# Altium schematic symbol library CommandBoard.SchLib: 44 symbols
Pins are listed as number, name and electrical type; pins without a type are passive.

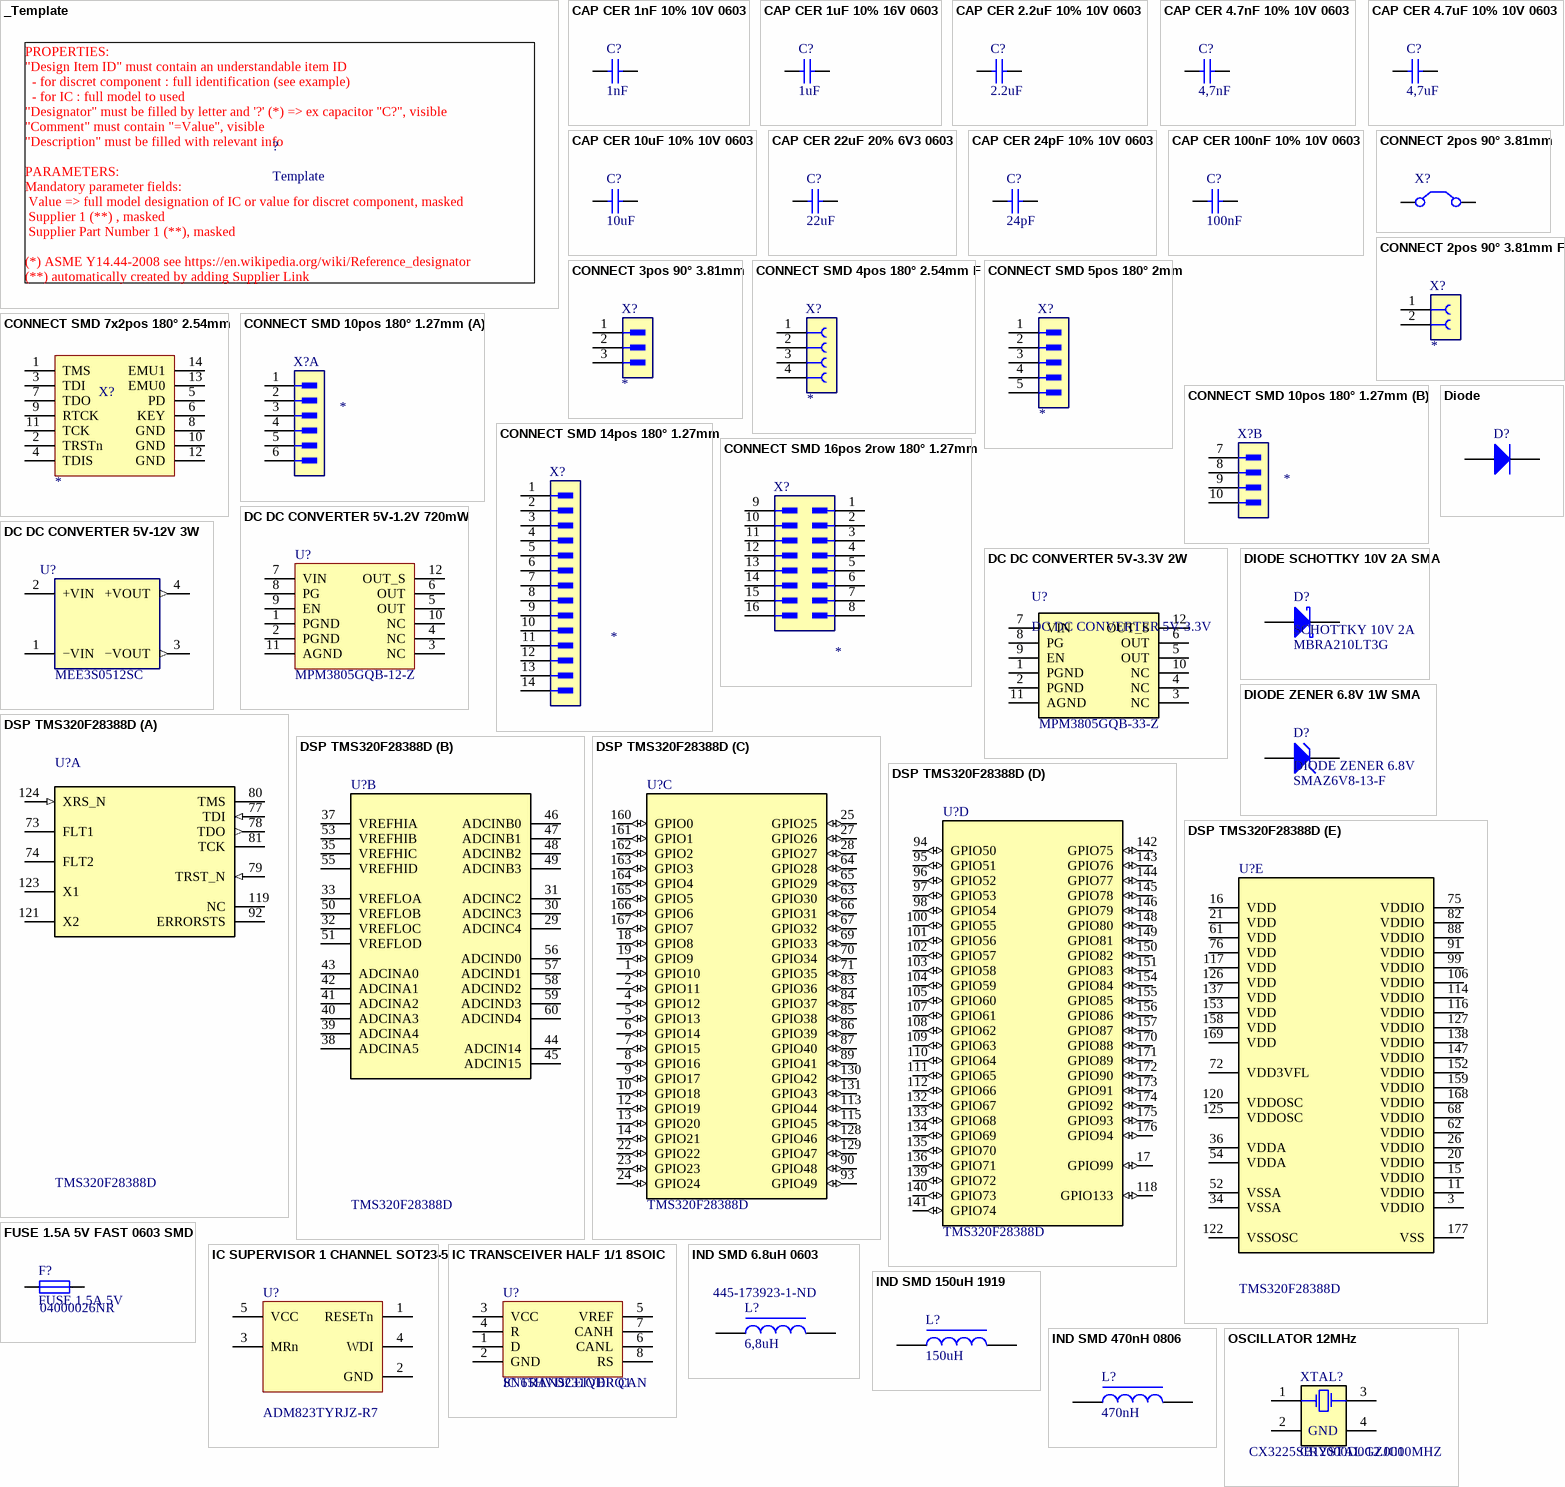
[diagram p0: symbols _Template to OSCILLATOR 12MHz]

## _Template
designator ?, comment Template
Template component; Value: Template
footprint _Template (Template component)
text: PROPERTIES: / "Design Item ID"	must contain an understandable item ID / - for discret component : full identification (see example) / - for IC : full model to used / "Designator"	must be filled by letter and '?' (*) => ex capacitor "C?", visible / "Comment"	must contain "=Value", visible / "Description"	must be filled with relevant info / PARAMETERS: / Mandatory parameter fields: / Value => full model designation of IC or value for discret component, masked / Supplier 1 (**) , masked / Supplier Part Number 1 (**), masked / (*) ASME Y14.44-2008 see https://en.wikipedia.org/wiki/Reference_designator / (**) automatically created by adding Supplier Link /

## CAP CER 1nF 10% 10V 0603
designator C?, comment value 1nF  (hidden comment: CAP CER 1nF 0603)
1nF ±10% 10V Condensateurs céramique X7R 0603 (1608 métrique); Supplier 1: Digi-Key; Supplier Part Number 1: 399-8984-1-ND
footprint CAPC1608X08N (Chip Capacitor, 2-Leads, Body 1.60x0.80mm, IPC Medium Density)
pins: 1, 2

## CAP CER 1uF 10% 16V 0603
designator C?, comment value 1uF  (hidden comment: CAP CER 1uF 0603)
1µF ±10% 16V Condensateurs céramique X7R 0603 (1608 métrique); Supplier 1: Digi-Key; Supplier Part Number 1: 399-7847-1-ND
footprint CAPC1608X08N (Chip Capacitor, 2-Leads, Body 1.60x0.80mm, IPC Medium Density)
pins: 1, 2

## CAP CER 2.2uF 10% 10V 0603
designator C?, comment value 2.2uF  (hidden comment: CAP CER 2.2uF 0603)
2,2µF ±10% 10V Condensateurs céramique X5R 0603 (1608 métrique); Supplier 1: Digi-Key; Supplier Part Number 1: 399-4911-1-ND
footprint CAPC1608X08N (Chip Capacitor, 2-Leads, Body 1.60x0.80mm, IPC Medium Density)
pins: 1, 2

## CAP CER 4.7nF 10% 10V 0603
designator C?, comment value 4,7nF  (hidden comment: CAP CER 4.7nF 0603)
4,7nF ±10% 10V Condensateurs céramique X7R 0603 (1608 métrique); Supplier 1: Digi-Key; Supplier Part Number 1: 399-9092-1-ND
footprint CAPC1608X08N (Chip Capacitor, 2-Leads, Body 1.60x0.80mm, IPC Medium Density)
pins: 1, 2

## CAP CER 4.7uF 10% 10V 0603
designator C?, comment value 4,7uF  (hidden comment: CAP CER 4.7uF 0603)
4,7µF ±20% 10V Condensateurs céramique X5R 0603 (1608 métrique); Supplier 1: Digi-Key; Supplier Part Number 1: 399-9100-1-ND
footprint CAPC1608X08N (Chip Capacitor, 2-Leads, Body 1.60x0.80mm, IPC Medium Density)
pins: 1, 2

## CAP CER 10uF 10% 10V 0603
designator C?, comment value 10uF  (hidden comment: CAP CER 10uF 0603)
10µF ±20% 10V Condensateurs céramique X5R 0603 (1608 métrique); Supplier 1: Digi-Key; Supplier Part Number 1: 399-14945-1-ND
footprint CAPC1608X08N (Chip Capacitor, 2-Leads, Body 1.60x0.80mm, IPC Medium Density)
pins: 1, 2

## CAP CER 22uF 20% 6V3 0603
designator C?, comment value 22uF  (hidden comment: CAP CER 22uF 0603)
22µF ±20% 6,3V Condensateurs céramique X5R 0603 (1608 métrique); Supplier 1: Digi-Key; Supplier Part Number 1: 399-14498-1-ND
footprint CAPC1608X08N (Chip Capacitor, 2-Leads, Body 1.60x0.80mm, IPC Medium Density)
pins: 1, 2

## CAP CER 24pF 10% 10V 0603
designator C?, comment value 24pF  (hidden comment: CAP CER 1nF 0603)
24pF ±10% 10V Condensateurs céramique X7R 0603 (1608 métrique); Supplier 1: Digi-Key; Supplier Part Number 1: 399-8984-1-ND
footprint CAPC1608X08N (Chip Capacitor, 2-Leads, Body 1.60x0.80mm, IPC Medium Density)
pins: 1, 2

## CAP CER 100nF 10% 10V 0603
designator C?, comment value 100nF  (hidden comment: CAP CER 100nF 0603)
0,1µF ±10% 10V Condensateurs céramique X7R 0603 (1608 métrique); Supplier 1: Digi-Key; Supplier Part Number 1: 399-1095-1-ND
footprint CAPC1608X08N (Chip Capacitor, 2-Leads, Body 1.60x0.80mm, IPC Medium Density)
pins: 1, 2

## CONNECT 2pos 90° 3.81mm
designator X?, comment CONNECT 2pos 90°  (value not drawn)
2 Positions, bloc de jonction Embase, broche mâle, gainée (4 côtés) 0,150 po (3,81mm) 90°, engle droit Trou traversant; Value: WR-TBL322; Supplier 1: Newark; Supplier Part Number 1: 99AH1144
footprint 62000211121 (Pin Header, pitch 2.00 mm, THT, Vertical, single row, 2p)
pins: 1 C1, 2 C2

## CONNECT 2pos 90° 3.81mm F
designator X?, comment CONNECT 2pos 90°  (value not drawn)
2 Positions, bloc de jonction Embase, broche mâle, gainée (4 côtés) 0,150 po (3,81mm) 90°, engle droit Trou traversant; Value: WR-TBL322; Supplier 1: Digi-Key; Supplier Part Number 1: 732-2088-ND; Use: *
footprint WR-TBL322 3.81mm 2p
pins: 1, 2

## CONNECT 3pos 90° 3.81mm
designator X?, comment CONNECT 3pos 90°  (value not drawn)
Value: WR-TBL322; Use: *
footprint 62000311121 (Pin Header, pitch 2.00 mm, THT, Vertical, single row, 3p)
pins: 1, 2, 3

## CONNECT SMD 4pos 180° 2.54mm F
designator X?, comment CONNECT SMD 4pos 180°  (value not drawn)
Connecteur, embase Montage en surface 4 positions 0,100 po (2,54mm); Value: *; Use: *
footprint TE_7-215079-4
pins: 1, 2, 3, 4

## CONNECT SMD 5pos 180° 2mm
designator X?, comment CONNECT SMD 5pos 180°  (value not drawn)
Value: *; Use: *
footprint 62000611121 (Pin Header, pitch 2.00 mm, THT, Vertical, single row, 6p)
pins: 1, 2, 3, 4, 5

## CONNECT SMD 7x2pos 180° 2.54mm
designator X?, comment CONNECT SMD 7x2pos 180°  (value not drawn)
Value: *; Use: *
footprint 62101421021 (Pin Header, pitch 1.27 mm, SMD, Vertical, dual row, 14p)
pins: 1 TMS, 2 TRSTn, 3 TDI, 4 TDIS, 5 PD, 6 KEY, 7 TDO, 8 GND, 9 RTCK, 10 GND, 11 TCK, 12 GND, 13 EMU0, 14 EMU1

## CONNECT SMD 10pos 180° 1.27mm
designator X?, comment CONNECT SMD 10pos 180°  (value not drawn)
Value: *; Use: *
footprint 62101021021 (Pin Header, pitch 1.27 mm, SMD, Vertical, dual row, 10p)
part A pins: 1, 2, 3, 4, 5, 6
part B pins: 7, 8, 9, 10

## CONNECT SMD 14pos 180° 1.27mm
designator X?, comment CONNECT SMD 14pos 180°  (value not drawn)
Value: *; Use: *
footprint 62101421021 (Pin Header, pitch 1.27 mm, SMD, Vertical, dual row, 14p)
pins: 1, 2, 3, 4, 5, 6, 7, 8, 9, 10, 11, 12, 13, 14

## CONNECT SMD 16pos 2row 180° 1.27mm
designator X?, comment CONNECT SMD 16pos 180°  (value not drawn)
Value: *; Use: *
footprint 62101621021 (Pin Header, pitch 1.27 mm, SMD, Vertical, dual row, 16p)
pins: 1, 2, 3, 4, 5, 6, 7, 8, 9, 10, 11, 12, 13, 14, 15, 16

## DC DC CONVERTER 5V-1.2V 720mW
designator U?, comment value MPM3805GQB-12-Z  (hidden comment: DC DC CONVERTER 5V-1.2V)
Module PoL non isolé Convertisseurs CC/CC 1 Sortie 1,2V 600mA 2,5V - 6V Entrée /; Supplier 1: Digi-Key; Supplier Part Number 1: 1589-1983-1-ND
footprint QFN2p5x3p0x0p9_MNP
pins: 1 PGND (power), 2 PGND (power), 3 NC (power), 4 NC (power), 5 OUT (power), 6 OUT (power), 7 VIN (power), 8 PG (power), 9 EN (power), 10 NC (power), 11 AGND (power), 12 OUT_S (power)

## DC DC CONVERTER 5V-3.3V 2W
designator U?, comment DC DC CONVERTER 5V-3.3V  value MPM3805GQB-33-Z
Module PoL non isolé Convertisseurs CC/CC 1 Sortie 3,3V 600mA 2,5V - 6V Entrée; Supplier 1: Digi-Key; Supplier Part Number 1: 1589-1986-1-ND
footprint QFN2p5x3p0x0p9_MNP
pins: 1 PGND (power), 2 PGND (power), 3 NC (power), 4 NC (power), 5 OUT (power), 6 OUT (power), 7 VIN (power), 8 PG (power), 9 EN (power), 10 NC (power), 11 AGND (power), 12 OUT_S (power)

## DC DC CONVERTER 5V-12V 3W
designator U?, comment value MEE3S0512SC  (hidden comment: DC DC CONVERTER 5V-12V)
Module isolé Convertisseurs CC/CC 1 Sortie 12V 250mA 4,5V - 5,5V Entrée; Supplier 1: Digi-Key; Supplier Part Number 1: 811-2358-5-ND
footprint DCDC CONVERTER
pins: 1 −VIN, 2 +VIN (power), 3 −VOUT (out), 4 +VOUT (out)

## Diode
designator D?
Default Diode; Published: 8-Jun-2000; LatestRevisionDate: 17-Jul-2002; LatestRevisionNote: Re-released for DXP Platform.; PackageVersion: Sep-1996; PackageReference: SMC; Publisher: Altium Limited; PackageDescription: DO-214-AB/SMC; 2 C-Bend Leads; Body 7.9 x 5.9 mm, inc. leads (LxW); Code_JEDEC: DO-214-AB
pins: 1 A, 2 K

## DIODE SCHOTTKY 10V 2A SMA
designator D?, comment SCHOTTKY 10V 2A  value MBRA210LT3G
Diode Schottky 10V 2A Montage en surface SMA; ComponentLink1Description: Manufacturer Link; ComponentLink1URL: http://www.infineon.com/; ComponentLink2Description: Datasheet; ComponentLink2URL: http://www.infineon.com/upload/Document/cmc_upload/documents/009/363/bat17series.pdf; Supplier 1: Digi-Key; Supplier Part Number 1: MBRA210LT3GOSCT-ND
footprint DIOM4326X22N (Molded Diode, 2-Leads, Body 4.31x2.61mm, IPC Medium Density)
pins: 1 A, 3 K

## DIODE ZENER 6.8V 1W SMA
designator D?, comment DIODE ZENER 6.8V  value SMAZ6V8-13-F
Diodes - Zener 6,8V 1W ±5% Montage en surface SMA; Supplier 1: Digi-Key; Supplier Part Number 1: SMAZ6V8-FDICT-ND
footprint DIOM4326X22N (Molded Diode, 2-Leads, Body 4.31x2.61mm, IPC Medium Density)
pins: 1 A, 2 K

## DSP TMS320F28388D
designator U?, comment value TMS320F28388D  (hidden comment: DSP)
Microcontrôleurs ARM - MCU C2000 32-bit MCU w/ connectivity manager, 2x C28x+CLA CPU, 1.5-MB flash, FPU64, CLB, ENET, EtherCAT 176-HLQFP -40 to 125 °C
footprint TSQFP50P2600X2600X160_HS-177N (TSQFP, 176-Leads, Body 24.00x24.00mm, Pitch 0.50mm, Thermal Pad 8.07x7.33mm, IPC Medium Density)
part A pins: 73 FLT1, 74 FLT2, 77 TDI (in), 78 TDO (out), 79 TRST_N (in), 80 TMS, 81 TCK, 92 ERRORSTS, 119 NC, 121 X2, 123 X1, 124 XRS_N (in)
part B pins: 29 ADCINC4, 30 ADCINC3, 31 ADCINC2, 32 VREFLOC (power), 33 VREFLOA (power), 35 VREFHIC (power), 37 VREFHIA (power), 38 ADCINA5, 39 ADCINA4, 40 ADCINA3, 41 ADCINA2, 42 ADCINA1, 43 ADCINA0, 44 ADCIN14, 45 ADCIN15, 46 ADCINB0, 47 ADCINB1, 48 ADCINB2, 49 ADCINB3, 50 VREFLOB (power), 51 VREFLOD (power), 53 VREFHIB (power), 55 VREFHID (power), 56 ADCIND0, 57 ADCIND1, 58 ADCIND2, 59 ADCIND3, 60 ADCIND4
part C pins: 1 GPIO10 (io), 2 GPIO11 (io), 4 GPIO12 (io), 5 GPIO13 (io), 6 GPIO14 (io), 7 GPIO15 (io), 8 GPIO16 (io), 9 GPIO17 (io), 10 GPIO18 (io), 12 GPIO19 (io), 13 GPIO20 (io), 14 GPIO21 (io), 18 GPIO8 (io), 19 GPIO9 (io), 22 GPIO22 (io), 23 GPIO23 (io), 24 GPIO24 (io), 25 GPIO25 (io), 27 GPIO26 (io), 28 GPIO27 (io), 63 GPIO30 (io), 64 GPIO28 (io), 65 GPIO29 (io), 66 GPIO31 (io), 67 GPIO32 (io), 69 GPIO33 (io), 70 GPIO34 (io), 71 GPIO35 (io), 83 GPIO36 (io), 84 GPIO37 (io), 85 GPIO38 (io), 86 GPIO39 (io), 87 GPIO40 (io), 89 GPIO41 (io), 90 GPIO48 (io), 93 GPIO49 (io), 113 GPIO44 (io), 115 GPIO45 (io), 128 GPIO46 (io), 129 GPIO47 (io), 130 GPIO42 (io), 131 GPIO43 (io), 160 GPIO0 (io), 161 GPIO1 (io), 162 GPIO2 (io), 163 GPIO3 (io), 164 GPIO4 (io), 165 GPIO5 (io), 166 GPIO6 (io), 167 GPIO7 (io)
part D pins: 17 GPIO99 (io), 94 GPIO50 (io), 95 GPIO51 (io), 96 GPIO52 (io), 97 GPIO53 (io), 98 GPIO54 (io), 100 GPIO55 (io), 101 GPIO56 (io), 102 GPIO57 (io), 103 GPIO58 (io), 104 GPIO59 (io), 105 GPIO60 (io), 107 GPIO61 (io), 108 GPIO62 (io), 109 GPIO63 (io), 110 GPIO64 (io), 111 GPIO65 (io), 112 GPIO66 (io), 118 GPIO133 (io), 132 GPIO67 (io), 133 GPIO68 (io), 134 GPIO69 (io), 135 GPIO70 (io), 136 GPIO71 (io), 139 GPIO72 (io), 140 GPIO73 (io), 141 GPIO74 (io), 142 GPIO75 (io), 143 GPIO76 (io), 144 GPIO77 (io), 145 GPIO78 (io), 146 GPIO79 (io), 148 GPIO80 (io), 149 GPIO81 (io), 150 GPIO82 (io), 151 GPIO83 (io), 154 GPIO84 (io), 155 GPIO85 (io), 156 GPIO86 (io), 157 GPIO87 (io), 170 GPIO88 (io), 171 GPIO89 (io), 172 GPIO90 (io), 173 GPIO91 (io), 174 GPIO92 (io), 175 GPIO93 (io), 176 GPIO94 (io)
part E pins: 3 VDDIO (power), 11 VDDIO (power), 15 VDDIO (power), 16 VDD (power), 20 VDDIO (power), 21 VDD (power), 26 VDDIO (power), 34 VSSA (power), 36 VDDA (power), 52 VSSA (power), 54 VDDA (power), 61 VDD (power), 62 VDDIO (power), 68 VDDIO (power), 72 VDD3VFL (power), 75 VDDIO (power), 76 VDD (power), 82 VDDIO (power), 88 VDDIO (power), 91 VDDIO (power), 99 VDDIO (power), 106 VDDIO (power), 114 VDDIO (power), 116 VDDIO (power), 117 VDD (power), 120 VDDOSC (power), 122 VSSOSC (power), 125 VDDOSC (power), 126 VDD (power), 127 VDDIO (power), 137 VDD (power), 138 VDDIO (power), 147 VDDIO (power), 152 VDDIO (power), 153 VDD (power), 158 VDD (power), 159 VDDIO (power), 168 VDDIO (power), 169 VDD (power), 177 VSS (power)

## FUSE 1.5A 5V FAST 0603 SMD
designator F?, comment FUSE 1.5A 5V  value 04000026NR
1,5A CA 5V Fusible CC Montage sur carte (type cartouche exclu) Montage en surface 0603 (1608 métrique); Supplier 1: Digi-Key; Supplier Part Number 1: F12132CT-ND
footprint FUSEC1508X06N (Chip Resistor, 2-Leads, Body 1.55x0.85mm, IPC Medium Density)
pins: 1, 2

## IC SUPERVISOR 1 CHANNEL SOT23-5
designator U?, comment value ADM823TYRJZ-R7  (hidden comment: SUPERVISOR 1 CHANNEL)
Superviseur Pousser-tirer/Totem pôle 1 canal SOT-23-5; Supplier 1: Digi-Key; Supplier Part Number 1: ADM823TYRJZ-R7CT-ND
footprint SOT95P280X145-5N (SOT23, 5-Leads, Body 2.90x2.80mm, Pitch 0.95mm, IPC Medium Density)
pins: 1 RESETn (power), 2 GND (power), 3 MRn (power), 4 WDI (power), 5 VCC (power)

## IC TRANSCEIVER HALF 1/1 8SOIC
designator U?, comment IC TRANSCEIVER CAN  value SN65HVD231QDRQ1
Émetteur-récepteur 1/1 Semi CANbus 8-SOIC; Supplier 1: Digi-Key; Supplier Part Number 1: 296-15380-1-ND
footprint SOIC127P600X175-8N (SOIC, 8-Leads, Body 4.91x3.90mm, Pitch 1.27mm, IPC Medium Density)
pins: 1 D (power), 2 GND (power), 3 VCC (power), 4 R (power), 5 VREF (power), 6 CANL (power), 7 CANH (power), 8 RS (power)

## IND SMD 6.8uH 0603
designator L?  value 6,8uH  Supplier Part Number 1: 445-173923-1-ND  (hidden comment: IND SMD 6.8uH 0603)
6,8µH Blindé Multicouche Inducteur 15mA 1,3Ohms maxi 0603 (1608 métrique); Supplier 1: Digi-Key
footprint INDC1608X10N (Chip Inductor, 2-Leads, Body 1.60x0.80mm, IPC Medium Density)
pins: 1, 2

## IND SMD 150uH 1919
designator L?  value 150uH  (hidden comment: IND SMD 150uH 1919)
150µH Blindé Bobiné Inducteur 420mA 860mOhms maxi 1919 (4848 métrique); Supplier 1: Digi-Key; Supplier Part Number 1: 732-3659-1-ND
footprint INDP4848X28N (Precision Wire Wound Inductor, 2-Leads, Body 4.80x4.80mm, IPC Medium Density)
pins: 1, 2

## IND SMD 470nH 0806
designator L?  value 470nH  (hidden comment: IND SMD 470nH 0806)
footprint INDC2016X10N (Chip Inductor, 2-Leads, Body 2.00x1.60mm, IPC Medium Density)
pins: 1, 2

## OSCILLATOR 12MHz
designator XTAL?, comment CRYSTAL 12.0000MHZ  value CX3225SB12000D0GZJC1
CRYSTAL 12.0000MHZ 8PF SMD
footprint OSCCC320X250X60N
pins: 1 OSC1, 2 GND, 3 OSC2, 4 GND

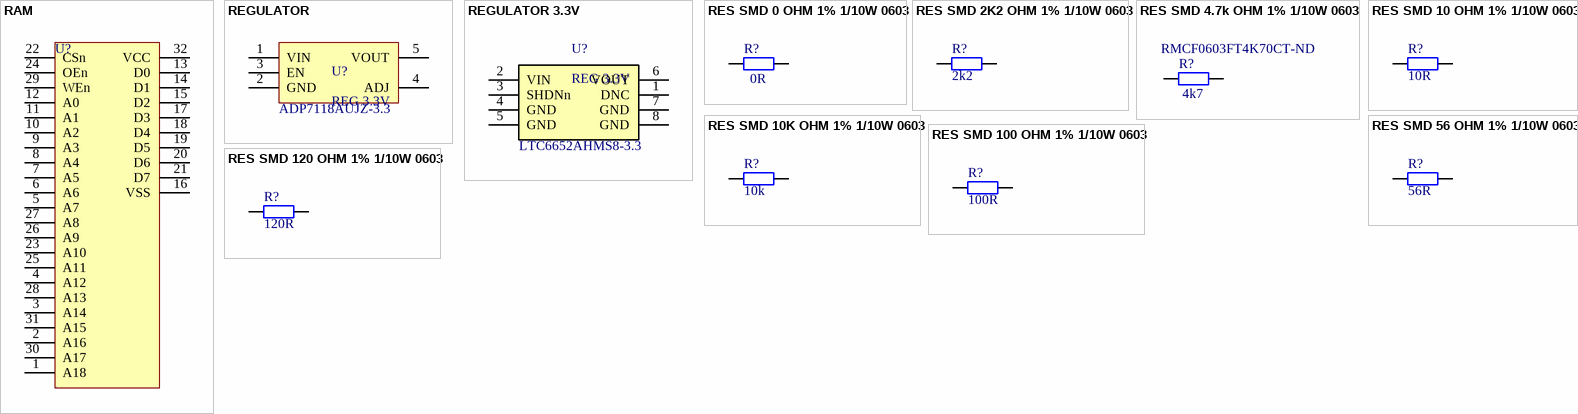
[diagram p1: symbols RAM to RES SMD 120 OHM 1% 1/10W 0603]

## RAM
designator U?, comment RAM SPI  (value not drawn)
IC RAM 8MBIT SPI 10MHZ 8SOP
footprint SOP127P1410X300-32N (SOP, 32-Leads, Body 20.68x11.30mm, Pitch 1.27mm, IPC Medium Density)
pins: 1 A18 (power), 2 A16 (power), 3 A14 (power), 4 A12 (power), 5 A7 (power), 6 A6 (power), 7 A5 (power), 8 A4 (power), 9 A3 (power), 10 A2 (power), 11 A1 (power), 12 A0 (power), 13 D0 (power), 14 D1 (power), 15 D2 (power), 16 VSS (power), 17 D3 (power), 18 D4 (power), 19 D5 (power), 20 D6 (power), 21 D7 (power), 22 CSn (power), 23 A10 (power), 24 OEn (power), 25 A11 (power), 26 A9 (power), 27 A8 (power), 28 A13 (power), 29 WEn (power), 30 A17 (power), 31 A15 (power), 32 VCC (power)

## REGULATOR
designator U?, comment REG 3.3V  value ADP7118AUJZ-3.3
IC REG LIN 3.3V 200MA TSOT23-5
footprint SOT95P280X145-5N (SOT23, 5-Leads, Body 2.90x2.80mm, Pitch 0.95mm, IPC Medium Density)
pins: 1 VIN (power), 2 GND (power), 3 EN (power), 4 ADJ (power), 5 VOUT (power)

## REGULATOR 3.3V
designator U?, comment REG 3.3V  value LTC6652AHMS8-3.3
Série Référence de tension IC ±0,05% 8-MSOP; Supplier 1: Digi-Key; Supplier Part Number 1: 1589-1986-1-ND
footprint TSOP65P490X110-8N (TSOP, 8-Leads, Body 3.00x3.00mm, Pitch 0.65mm, IPC Medium Density)
pins: 1 DNC (power), 2 VIN (power), 3 SHDNn (power), 4 GND (power), 5 GND (power), 6 VOUT (power), 7 GND (power), 8 GND (power)

## RES SMD 0 OHM 1% 1/10W 0603
designator R?, comment value 0R  (hidden comment: RES SMD 0R 0603)
Resistance 0 OHM
footprint RESC1508X04N (Chip Resistor, 2-Leads, Body 1.55x0.80mm, IPC Medium Density)
pins: 1, 2

## RES SMD 2K2 OHM 1% 1/10W 0603
designator R?, comment value 2k2  (hidden comment: RES SMD 2K2 0603)
2,2 kOhms ±1% 0,1W, 1/10W Pavé résistif 0603 (1608 métrique) AutomobileAEC-Q200 Couche épaisse; Supplier 1: Digi-Key; Supplier Part Number 1: RMCF0603FT2K20CT-ND
footprint RESC1508X04N (Chip Resistor, 2-Leads, Body 1.55x0.80mm, IPC Medium Density)
pins: 1, 2

## RES SMD 4.7k OHM 1% 1/10W 0603
designator R?, comment value 4k7  Supplier Part Number 1: RMCF0603FT4K70CT-ND  (hidden comment: RES SMD 4.7k 0603)
4,7 kOhms ±1% 0,1W, 1/10W Pavé résistif 0603 (1608 métrique) AutomobileAEC-Q200 Couche épaisse; Supplier 1: Digi-Key
footprint RESC1508X04N (Chip Resistor, 2-Leads, Body 1.55x0.80mm, IPC Medium Density)
pins: 1, 2

## RES SMD 10 OHM 1% 1/10W 0603
designator R?, comment value 10R  (hidden comment: RES SMD 10R 0603)
10 Ohms ±1% 0,1W, 1/10W Pavé résistif 0603 (1608 métrique) AutomobileAEC-Q200 Couche épaisse; Supplier 1: Digi-Key; Supplier Part Number 1: RMCF0603FT10R0CT-ND
footprint RESC1508X04N (Chip Resistor, 2-Leads, Body 1.55x0.80mm, IPC Medium Density)
pins: 1, 2

## RES SMD 10K OHM 1% 1/10W 0603
designator R?, comment value 10k  (hidden comment: RES 10K SMD 0603)
10 kOhms ±1% 0,1W, 1/10W Pavé résistif 0603 (1608 métrique) AutomobileAEC-Q200 Couche épaisse; Supplier 1: Digi-Key; Supplier Part Number 1: RMCF0603FT10K0CT-ND
footprint RESC1508X04N (Chip Resistor, 2-Leads, Body 1.55x0.80mm, IPC Medium Density)
pins: 1, 2

## RES SMD 56 OHM 1% 1/10W 0603
designator R?, comment value 56R  (hidden comment: RES SMD 56R 0603)
56 Ohms ±1% 0,1W, 1/10W Pavé résistif 0603 (1608 métrique) AutomobileAEC-Q200 Couche épaisse; Supplier 1: Digi-Key; Supplier Part Number 1: RMCF0603FT56R0CT-ND
footprint RESC1508X04N (Chip Resistor, 2-Leads, Body 1.55x0.80mm, IPC Medium Density)
pins: 1, 2

## RES SMD 100 OHM 1% 1/10W 0603
designator R?, comment value 100R  (hidden comment: RES SMD 100R 0603)
100 Ohms ±1% 0,1W, 1/10W Pavé résistif 0603 (1608 métrique) AutomobileAEC-Q200 Couche épaisse; Supplier 1: Digi-Key; Supplier Part Number 1: RMCF0603FT100RCT-ND
footprint RESC1508X04N (Chip Resistor, 2-Leads, Body 1.55x0.80mm, IPC Medium Density)
pins: 1, 2

## RES SMD 120 OHM 1% 1/10W 0603
designator R?, comment value 120R  (hidden comment: RES SMD 120R 0603)
120 Ohms ±1% 0,1W, 1/10W Pavé résistif 0603 (1608 métrique) AutomobileAEC-Q200 Couche épaisse; Supplier 1: Digi-Key; Supplier Part Number 1: RMCF0603FT120RCT-ND
footprint RESC1508X04N (Chip Resistor, 2-Leads, Body 1.55x0.80mm, IPC Medium Density)
pins: 1, 2